# Altium footprint library CPAV.PcbLib: 150 footprints (part 5 of 10)
Each footprint in its own frame and in the unit in brackets; x right, y up, seen from the top. Pads: shape width x height; smd on the part's side, far side on the other; paste and mask are expansions set on the pad; w line width, h text height; cw(c..) or ccw(c..) is an arc to the next point about the centre after c.
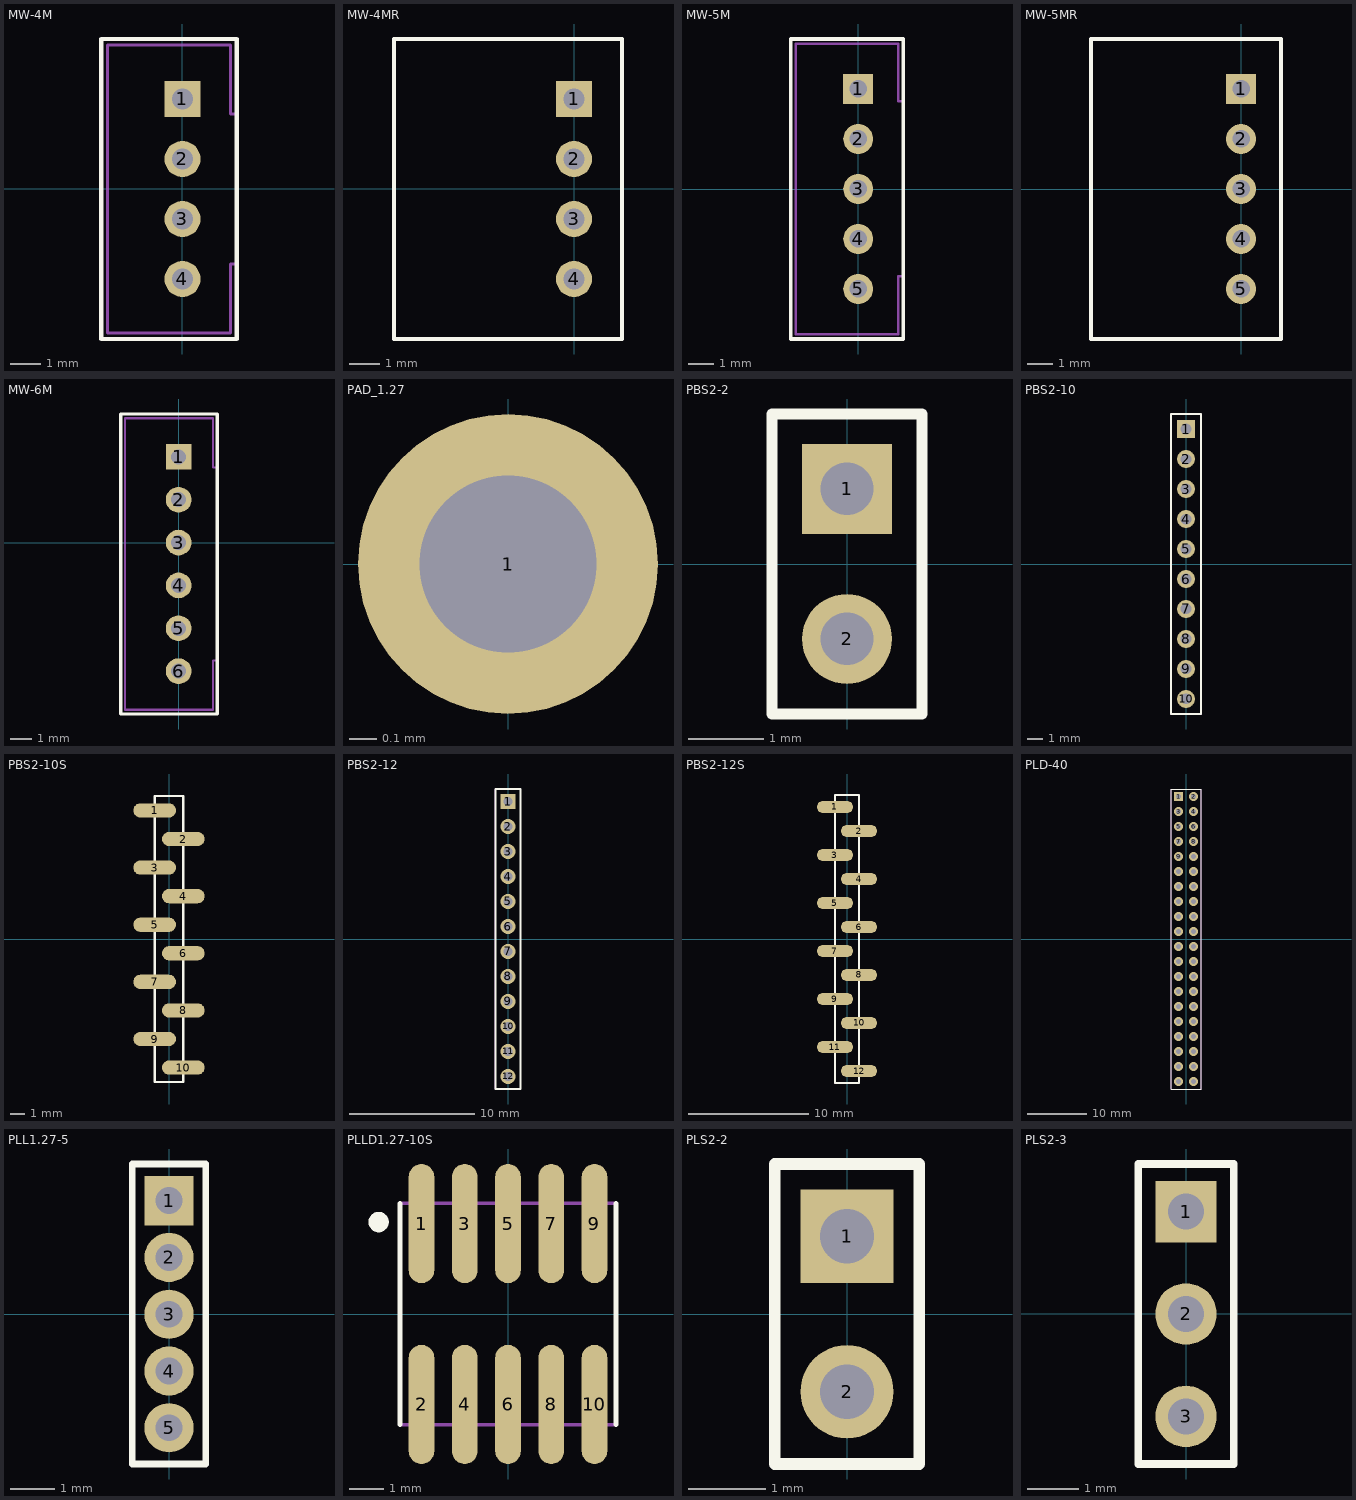
[diagram p4: the footprints below, top view; thin cyan lines are the x and y axes]

## MW-4M [mm]
height 6
pads (4):
  rect 1.2x1.2 hole 0.7: 1(0,3)
  round 1.2 hole 0.7: 2(0,1) 3(0,-1) 4(0,-3)
Top Overlay:
  lines w0.15: -2.7,-5 -2.7,5 1.8,5 1.8,-5 -2.7,-5
Mechanical 7:
  lines w0.1: 1.79,-2.5 1.6,-2.5 1.6,-4.8 -2.5,-4.8 -2.5,4.8 1.6,4.8 1.6,2.5 1.79,2.5 ; -2.7,-5 -2.7,5 1.8,5 1.8,-5 -2.7,-5
Mechanical 10:
  text ".Designator" at -1.28,5.98 h0.8
  text ".Comment" at -1.27,5.41 h0.6
3D body: height 6, standoff 0, extent -2.7,-5 1.8,5

## MW-4MR [mm]
height 4.5
pads (4):
  rect 1.2x1.2 hole 0.7: 1(0,3)
  round 1.2 hole 0.7: 2(0,1) 3(0,-1) 4(0,-3)
Top Overlay:
  lines w0.15: -6,-5 -6,5 1.6,5 1.6,-5 -6,-5
Mechanical 7:
  lines w0.1: -6,-5 1.6,-5 1.6,5 -6,5 -6,-5
Mechanical 10:
  text ".Designator" at -3.43,6.03 h0.8
  text ".Comment" at -3.42,5.46 h0.6
3D body: height 4.5, standoff 0, extent -6,-5 1.6,5

## MW-5M [mm]
height 6
pads (5):
  rect 1.2x1.2 hole 0.7: 1(0,4)
  round 1.2 hole 0.7: 2(0,2) 3(0,0) 4(0,-2) 5(0,-4)
Top Overlay:
  lines w0.15: -2.7,-6 1.8,-6 1.8,6 -2.7,6 -2.7,-6
Mechanical 7:
  lines w0.1: 1.79,-3.5 1.6,-3.5 1.6,-5.8 -2.5,-5.8 -2.5,5.8 1.6,5.8 1.6,3.5 1.79,3.5 ; -2.7,-6 1.8,-6 1.8,6 -2.7,6 -2.7,-6
Mechanical 10:
  text ".Comment" at -1.27,6.41 h0.6
  text ".Designator" at -1.28,6.98 h0.8
3D body: height 6, standoff 0, extent -2.7,-6 1.8,6

## MW-5MR [mm]
height 4.5
pads (5):
  rect 1.2x1.2 hole 0.7: 1(0,4)
  round 1.2 hole 0.7: 2(0,2) 3(0,0) 4(0,-2) 5(0,-4)
Top Overlay:
  lines w0.15: -6,-6 -6,6 1.6,6 1.6,-6 -6,-6
Mechanical 7:
  lines w0.1: -6,-6 -6,6 1.6,6 1.6,-6 -6,-6
Mechanical 10:
  text ".Comment" at -3.42,6.46 h0.6
  text ".Designator" at -3.43,7.03 h0.8
3D body: height 4.5, standoff 0, extent -6,-6 1.6,6

## MW-6M [mm]
height 6
pads (6):
  rect 1.2x1.2 hole 0.7: 1(0,4)
  round 1.2 hole 0.7: 2(0,2) 3(0,0) 4(0,-2) 5(0,-4) 6(0,-6)
Top Overlay:
  lines w0.15: -2.7,-8 -2.7,6 1.8,6 1.8,-8 -2.7,-8
Mechanical 7:
  lines w0.1: 1.79,-5.5 1.6,-5.5 1.6,-7.8 -2.5,-7.8 -2.5,5.8 1.6,5.8 1.6,3.5 1.79,3.5 ; -2.7,-8 -2.7,6 1.8,6 1.8,-8 -2.7,-8
Mechanical 10:
  text ".Designator" at -1.28,6.98 h0.8
  text ".Comment" at -1.27,6.41 h0.6
3D body: height 6, standoff 0, extent -2.7,-8 1.8,6

## PAD_1.27 [mm]
pads (1):
  round 1.1 hole 0.65: 1(0,0)

## PBS2-2 [mm]
height 4.5
pads (2):
  rect 1.2x1.2 hole 0.7: 1(0,1)
  round 1.2 hole 0.7: 2(0,-1)
Top Overlay:
  lines w0.15: -1,-2 1,-2 1,2 -1,2 -1,-2
Mechanical 7:
  lines w0.1: -1,-2 1,-2 1,2 -1,2 -1,-2
Mechanical 10:
  text ".Designator" at -0.575,3.15 h0.8
  text ".Comment" at -0.575,2.475 h0.6
3D body: height 4.5, standoff 0, extent -1,-2 1,2

## PBS2-10 [mm]
height 4.5
pads (10):
  rect 1.2x1.2 hole 0.7: 1(0,9)
  round 1.2 hole 0.7: 2(0,7) 3(0,5) 4(0,3) 5(0,1) 6(0,-1) 7(0,-3) 8(0,-5) 9(0,-7) 10(0,-9)
Top Overlay:
  lines w0.15: -1,-10 1,-10 1,10 -1,10 -1,-10
Mechanical 7:
  lines w0.1: -1,-10 -1,10 1,10 1,-10 -1,-10
Mechanical 10:
  text ".Designator" at -0.575,11.15 h0.8
  text ".Comment" at -0.575,10.475 h0.6
3D body: height 4.5, standoff 0, extent -1,-10 1,10

## PBS2-10S [mm]
height 4.5
pads (10):
  oval 3x1 smd: 1(-1,9) 2(1,7) 3(-1,5) 4(1,3) 5(-1,1) 6(1,-1) 7(-1,-3) 8(1,-5) 9(-1,-7) 10(1,-9)
Top Overlay:
  lines w0.15: -1,-10 -1,10 1,10 1,-10 -1,-10
Mechanical 7:
  lines w0.1: -1,-10 1,-10 1,10 -1,10 -1,-10
Mechanical 10:
  text ".Comment" at -0.575,10.475 h0.6
  text ".Designator" at -0.575,11.15 h0.8
3D body: height 4.5, standoff 0, extent -1,-10 1,10

## PBS2-12 [mm]
height 4.5
pads (12):
  rect 1.2x1.2 hole 0.7: 1(0,11)
  round 1.2 hole 0.7: 2(0,9) 3(0,7) 4(0,5) 5(0,3) 6(0,1) 7(0,-1) 8(0,-3) 9(0,-5) 10(0,-7) 11(0,-9) 12(0,-11)
Top Overlay:
  lines w0.15: -1,-12 -1,12 1,12 1,-12 -1,-12
Mechanical 7:
  lines w0.1: -1,-12 -1,12 1,12 1,-12 -1,-12
Mechanical 10:
  text ".Comment" at -0.575,12.475 h0.6
  text ".Designator" at -0.575,13.15 h0.8
3D body: height 4.5, standoff 0, extent -1,-12 1,12

## PBS2-12S [mm]
height 4.5
pads (12):
  oval 3x1 smd: 1(-1,11) 2(1,9) 3(-1,7) 4(1,5) 5(-1,3) 6(1,1) 7(-1,-1) 8(1,-3) 9(-1,-5) 10(1,-7) 11(-1,-9) 12(1,-11)
Top Overlay:
  lines w0.15: -1,-12 1,-12 1,12 -1,12 -1,-12
Mechanical 7:
  lines w0.1: -1,-12 1,-12 1,12 -1,12 -1,-12
Mechanical 10:
  text ".Designator" at -0.575,13.15 h0.8
  text ".Comment" at -0.575,12.475 h0.6
3D body: height 4.5, standoff 0, extent -1,-12 1,12

## PLD-40 [mm]
height 0.05
pads (40):
  rect 1.5x1.5 hole 0.9: 1(-1.27,24.13)
  round 1.5 hole 0.9: 2(1.27,24.13) 3(-1.27,21.59) 4(1.27,21.59) 5(-1.27,19.05) 6(1.27,19.05) 7(-1.27,16.51) 8(1.27,16.51) 9(-1.27,13.97) 10(1.27,13.97) 11(-1.27,11.43) 12(1.27,11.43) 13(-1.27,8.89) 14(1.27,8.89) 15(-1.27,6.35) 16(1.27,6.35) 17(-1.27,3.81) 18(1.27,3.81) 19(-1.27,1.27) 20(1.27,1.27) 21(-1.27,-1.27) 22(1.27,-1.27) 23(-1.27,-3.81) 24(1.27,-3.81) 25(-1.27,-6.35) 26(1.27,-6.35) 27(-1.27,-8.89) 28(1.27,-8.89) 29(-1.27,-11.43) 30(1.27,-11.43) 31(-1.27,-13.97) 32(1.27,-13.97) 33(-1.27,-16.51) 34(1.27,-16.51) 35(-1.27,-19.05) 36(1.27,-19.05) 37(-1.27,-21.59) 38(1.27,-21.59) 39(-1.27,-24.13) 40(1.27,-24.13)
Top Overlay:
  lines w0.15: -2.54,-25.4 2.54,-25.4 2.54,25.4 -2.54,25.4 -2.54,-25.4
Mechanical 7:
  lines w0.1: -2.54,-25.4 -2.54,25.4 2.54,25.4 2.54,-25.4 -2.54,-25.4
Mechanical 10:
  text ".Comment" at -0.43,25.94 h0.6
  text ".Designator" at -0.54,26.67 h0.8
3D body: height 0.05, standoff 0, extent -2.54,-25.4 2.54,25.4

## PLL1.27-5 [mm]
height 0.05
pads (5):
  rect 1.1x1.1 hole 0.6: 1(0,2.54)
  round 1.1 hole 0.6: 2(0,1.27) 3(0,0) 4(0,-1.27) 5(0,-2.54)
Top Overlay:
  lines w0.15: -0.82,-3.35 0.82,-3.35 0.82,3.36 -0.82,3.36 -0.82,-3.35
Mechanical 7:
  lines w0.1: -0.82,-3.35 0.82,-3.35 0.82,3.36 -0.82,3.36 -0.82,-3.35
Mechanical 10:
  text ".Designator" at -0.4,3.76 h0.8
  text ".Comment" at -0.34,-4.16 h0.6
3D body: height 0.05, standoff 0, extent -0.82,-3.35 0.82,3.36

## PLLD1.27-10S [mm] "PLDD-1.27"
height 5
pads (10):
  oval 0.75x3.5 smd: 1(-2.54,2.655) 2(-2.54,-2.655) 3(-1.27,2.655) 4(-1.27,-2.655) 5(0,2.655) 6(0,-2.655) 7(1.27,2.655) 8(1.27,-2.655) 9(2.54,2.655) 10(2.54,-2.655)
Top Overlay:
  circle w0.3: c-3.8,2.7 r0.15
  lines w0.15: -3.175,-3.25 -3.175,3.25 ; 3.175,-3.25 3.175,3.25
Mechanical 7:
  lines w0.1: -3.175,-3.25 3.175,-3.25 3.175,3.25 -3.175,3.25 -3.175,-3.25
3D body: height 5, standoff 0, extent -3.175,-3.25 3.175,3.25

## PLS2-2 [mm]
height 0.05
pads (2):
  rect 1.2x1.2 hole 0.7: 1(0,1)
  round 1.2 hole 0.7: 2(0,-1)
Top Overlay:
  lines w0.15: -0.93,-1.93 -0.93,1.93 0.93,1.93 0.93,-1.93 -0.93,-1.93
Mechanical 7:
  lines w0.1: -0.93,-1.93 -0.93,1.93 0.93,1.93 0.93,-1.93 -0.93,-1.93
Mechanical 10:
  text ".Designator" at -0.55,2.34 h0.8
  text ".Comment" at -0.6,-2.62 h0.6
3D body: height 0.05, standoff 0, extent -0.93,-1.93 0.93,1.93

## PLS2-3 [mm]
height 0.05
pads (3):
  rect 1.2x1.2 hole 0.7: 1(0,2)
  round 1.2 hole 0.7: 2(0,0) 3(0,-2)
Top Overlay:
  lines w0.15: -0.93,-2.93 -0.93,2.93 0.93,2.93 0.93,-2.93 -0.93,-2.93
Mechanical 7:
  lines w0.1: -0.93,-2.93 -0.93,2.93 0.93,2.93 0.93,-2.93 -0.93,-2.93
Mechanical 10:
  text ".Comment" at -0.6,-3.5 h0.6
  text ".Designator" at -0.55,3.34 h0.8
3D body: height 0.05, standoff 0, extent -0.93,-2.93 0.93,2.93